# Altium schematic symbol library G2R-2-DC5V.Schlib: 1 symbol
Pins are listed as number, name and electrical type; pins without a type are passive.

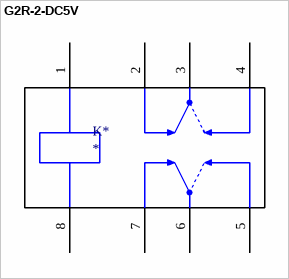
[diagram p0: symbol G2R-2-DC5V]

## G2R-2-DC5V
designator K*
General Purpose Non Latching 5VDC DPDT 5A Through Hole Relays RoHS; ComponentLink1Description: LCSC - Omron Electronics G2R-2-DC5V; ComponentLink1URL: https://lcsc.com/product-detail/Relays_OMRON_G2R-2-DC5V_G2R-2-DC5V_C45401.html; LCSC Part #: C28066
footprint G2R-2-DPDT
pins: 1, 2, 3, 4, 5, 6, 7, 8